# Altium schematic symbol library lora_carrier.SCHLIB: 34 symbols
Pins are listed as number, name and electrical type; pins without a type are passive.

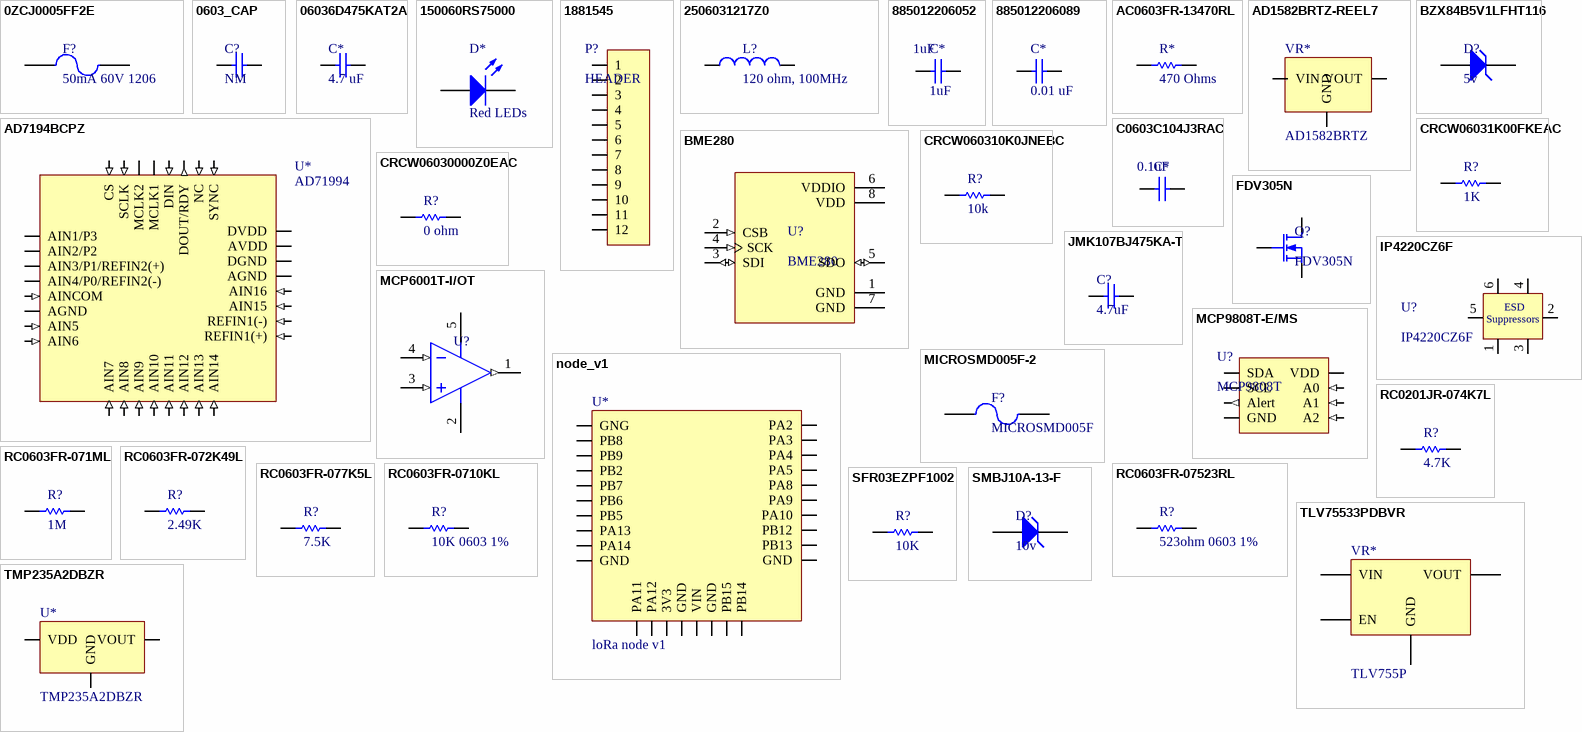
[diagram p0: symbols 0ZCJ0005FF2E to TMP235A2DBZR]

## 0ZCJ0005FF2E
designator F?, comment 50mA 60V 1206
Resettable Fuses - PPTC Fuse; Manufacturer: Bel Fuse; Manufacturer Part Number: 0ZCJ0005FF2E; Resistance: 50 Ohms; Type: PTC Resettable Fuses; Current Rating - Max: 10 A; Maximum Voltage: 60 VDC; Trip Current: 150 mA; Pd - Power Dissipation: 400 mW; Supplier 1: Mouser; RoHS: RoHS Compliant; Category: Resettable Fuses - PPTC; Stock 1: 83395; Pricing 1: 1=0.096, 10=0.085, 100=0.060, 250=0.059, 500=0.050, 1000=0.044, 3000=0.041, 6000=0.038, 9000=0.036 (EUR); Package / Case: 1206 (3216 metric); Packaging: Cut Tape; Series: ZCJ; Termination Style: SMD/SMT; Brand: Bel Fuse; Hold Current: 50 mA; Mounting Style: SMD/SMT; Maximum Operating Temperature: + 85 C; Minimum Operating Temperature: - 40 C; Product Type: Resettable Fuses - PPTC; Standard Pack Qty: 3000; Subcategory: PPTC Resettable Fuses; RoHS - Mouser: Y; Minimum Order Quantity: 1; Reeling: True; ComponentLink1URL: https://www.mouser.com/datasheet/2/643/0ZCJ_Nov2016-1132002.pdf; ComponentLink1Description: https://www.mouser.com/datasheet/2/643/0ZCJ_Nov2016-1132002.pdf; Supplier Part Number 1: 530-0ZCJ0005FF2E
footprint Chip2Pin-1206-FUSE-0ZCJ0005FF2E
pins: 1, 2

## 0603_CAP
designator C?, comment NM
footprint Chip2PinWURTcap
pins: 1, 2

## 06036D475KAT2A
designator C*, comment 4.7 uF
Multilayer Ceramic Capacitors MLCC - SMD/SMT FACTORY NOT ACCEPTING ORDERS; Manufacturer: AVX; Manufacturer Part Number: 06036D475KAT2A; Tolerance: 10 %; Voltage Rating DC: 6.3 VDC; Capacitance - nF: 4700 nF; Class: Class 2; Dielectric: X5R; Supplier 1: Mouser; RoHS: RoHS Compliant By Exemption; Category: Multilayer Ceramic Capacitors MLCC - SMD/SMT; Stock 1: 7820; Pricing 1: 1=0.306, 10=0.216, 100=0.122, 500=0.086, 1000=0.075, 2000=0.063, 4000=0.059, 8000=0.056, 24000=0.050 (EUR); Capacitance: 4.7 uF; Height: 0.9 mm; Length: 1.6 mm; Package / Case: 0603 (1608 metric); Packaging: Reel; Product: General Type MLCCs; Series: X5R; Termination Style: SMD/SMT; Type: Commercial Surface Mount Chip; Width: 0.81 mm; Brand: AVX; Case Code - in: 0603; Case Code - mm: 1608; Maximum Operating Temperature: + 85 C; Minimum Operating Temperature: - 55 C; Product Type: Ceramic Capacitors; Standard Pack Qty: 4000; Subcategory: Capacitors; RoHS - Mouser: E; Minimum Order Quantity: 8000; Reeling: True; ComponentLink1URL: https://www.mouser.com/datasheet/2/40/cx5r-776519.pdf; ComponentLink1Description: https://www.mouser.com/datasheet/2/40/cx5r-776519.pdf; Supplier Part Number 1: 581-06036D475K
footprint Chip2AVX_0603_cap
pins: 1, 2

## 150060RS75000
designator D*, comment Red LEDs
Typical INFRARED GaAs LED; Manufacturer: Wurth Electronics; Manufacturer Part Number: 150060RS75000; Lens Color/Style: Water Clear; Power Rating: 72 mW; Lens Shape: Rectangular; Luminous Intensity: 250 mcd; Peak Wavelength: 630 nm; Viewing Angle: 140 deg; CNHTS: 8541401000; If - Forward Current: 20 mA; MXHTS: 85414001; Vf - Forward Voltage: 2 V; Vr - Reverse Voltage: 5 V; Wavelength/Color Temperature: 625 nm; Published: 8-Jun-2000; LatestRevisionDate: 08-Jul-2005; LatestRevisionNote: Mech Layer 1 removed.; PackageReference: LED-0; Publisher: Altium Limited; PackageDescription: LED; 2 Leads; Supplier 1: Mouser; Supplier Part Number 1: 710-150060RS75000; RoHS: RoHS Compliant; Category: Standard LEDs - SMD; Stock 1: 74254; Pricing 1: 1=0.130, 10=0.126, 50=0.115, 100=0.099, 500=0.085, 4000=0.085 (EUR); Height: 0.7 mm; Illumination Color: Red; Length: 1.6 mm; Package / Case: 0603 (1608 metric); Packaging: Cut Tape; Product: Red LEDs; Series: WL-SMCW; Width: 0.8 mm; Brand: Wurth Electronics; Mounting Style: SMD/SMT; HTS Code: 8541402000; Lens Dimensions: 1.1 mm x 0.8 mm; Maximum Operating Temperature: + 85 C; Minimum Operating Temperature: - 40 C; Product Type: LED - Standard; Standard Pack Qty: 4000; Subcategory: LEDs; TARIC: 8541401000; RoHS - Mouser: Y; Minimum Order Quantity: 1; Reeling: True; ComponentLink1URL: http://www.mouser.com/datasheet/2/445/150060RS75000-368563.pdf; ComponentLink1Description: http://www.mouser.com/datasheet/2/445/150060RS75000-368563.pdf
footprint Wurth_LED_0603
pins: 1 A, 2 K

## 1881545
designator P?, comment HEADER
footprint 1881545
pins: 1, 2, 3, 4, 5, 6, 7, 8, 9, 10, 11, 12

## 2506031217Z0
designator L?, comment 120 ohm, 100MHz
Ferrite Beads MULTILAYER CHIP BEAD Z=120 OHM@100MHz 25%; Manufacturer: Fair-Rite; Manufacturer Part Number: 2506031217Z0; Impedance: 120 Ohms; Maximum DC Current: 450 mA; Maximum DC Resistance: 300 mOhms; Type: Multilayer Ferrite Chip Bead; Supplier 1: Mouser; RoHS: RoHS Compliant; Category: Ferrite Beads; Stock 1: 9619; Pricing 1: 1=0.032, 2500=0.027, 4000=0.025, 8000=0.024, 24000=0.022, 48000=0.021, 100000=0.018, 400000=0.016 (EUR); Capacitance: -; Height: 0.8 mm; Length: 1.6 mm; Operating Temperature Range: - 55 C to + 125 C; Package / Case: 0603 (1608 metric); Packaging: Cut Tape; Product: Ferrite Chip Beads; Termination Style: SMD/SMT; Tolerance: 25 %; Width: 0.8 mm; Brand: Fair-Rite; Maximum Operating Temperature: + 125 C; Minimum Operating Temperature: - 55 C; Product Type: Ferrite Beads; Standard Pack Qty: 4000; Subcategory: Ferrites; Termination: -; Test Frequency: 100 MHz; RoHS - Mouser: Y; Minimum Order Quantity: 1; Reeling: True; ComponentLink1URL: https://www.mouser.com/datasheet/2/150/2506031217Z0-471794.pdf; ComponentLink1Description: https://www.mouser.com/datasheet/2/150/2506031217Z0-471794.pdf; Supplier Part Number 1: 623-2506031217Z0
footprint Chip22506031217Z0-FeBread
pins: 1, 2

## 885012206052
designator C*, comment 1uF
Ceramic Capacitors; Manufacturer: Wurth Electronics; Manufacturer Part Number: 885012206052; Tolerance: 10 %; Voltage Rating DC: 16 VDC; Capacitance - nF: 1000 nF; CNHTS: 8532241000; Dielectric: X7R; TARIC: 8532240000; Published: 8-Jun-2000; LatestRevisionDate: 17-Jul-2002; LatestRevisionNote: Re-released for DXP Platform.; PackageReference: RAD-0.3; Publisher: Altium Limited; PackageDescription: Radial Cap, Thru-Hole; 2 Leads; 0.3 in Pin Spacing; Supplier 1: Mouser; Supplier Part Number 1: 710-885012206052; RoHS: RoHS Compliant; Category: Multilayer Ceramic Capacitors MLCC - SMD/SMT; Stock 1: 27157; Pricing 1: 1=0.110, 10=0.104, 50=0.085, 100=0.067, 250=0.059, 500=0.054, 4000=0.054 (EUR); Capacitance: 1 uF; Height: 0.8 mm; Length: 1.6 mm; Package / Case: 0603 (1608 metric); Packaging: Cut Tape; Product: General Type MLCCs; Series: WCAP-CSGP; Termination Style: SMD/SMT; Width: 0.8 mm; Brand: Wurth Electronics; Case Code - in: 0603; Case Code - mm: 1608; HTS Code: 8532240020; Maximum Operating Temperature: + 125 C; Minimum Operating Temperature: - 55 C; Product Type: Ceramic Capacitors; Standard Pack Qty: 4000; Subcategory: Capacitors; RoHS - Mouser: Y; Minimum Order Quantity: 1; Reeling: True; ComponentLink1URL: http://www.mouser.com/datasheet/2/445/885012206052-554330.pdf; ComponentLink1Description: http://www.mouser.com/datasheet/2/445/885012206052-554330.pdf; Value: 1uF
footprint Chip2PinWURTcap
pins: 1, 2

## 885012206089
designator C*, comment 0.01 uF
Multilayer Ceramic Capacitors MLCC - SMD/SMT WCAP-CSGP 0.01uF 0603 10% 50V MLCC; Manufacturer: Wurth Electronics; Manufacturer Part Number: 885012206089; Voltage Rating DC: 50 VDC; Capacitance - nF: 10 nF; Capacitance - pF: 10000 pF; Dielectric: X7R; Supplier 1: Mouser; RoHS: RoHS Compliant; Category: Multilayer Ceramic Capacitors MLCC - SMD/SMT; Stock 1: 174725; Pricing 1: 1=0.040, 10=0.032, 50=0.026, 100=0.021, 250=0.018, 500=0.017, 4000=0.017 (EUR); Capacitance: 0.01 uF; Height: 0.8 mm; Length: 1.6 mm; Package / Case: 0603 (1608 metric); Packaging: Cut Tape; Product: General Type MLCCs; Series: WCAP-CSGP; Termination Style: SMD/SMT; Tolerance: 10 %; Width: 0.8 mm; Brand: Wurth Electronics; Case Code - in: 0603; Case Code - mm: 1608; Maximum Operating Temperature: + 125 C; Minimum Operating Temperature: - 55 C; Product Type: Ceramic Capacitors; Standard Pack Qty: 4000; Subcategory: Capacitors; RoHS - Mouser: Y; Minimum Order Quantity: 1; Reeling: True; ComponentLink1URL: https://www.mouser.com/datasheet/2/445/885012206089-554597.pdf; ComponentLink1Description: https://www.mouser.com/datasheet/2/445/885012206089-554597.pdf; Supplier Part Number 1: 710-885012206089
footprint Chip2PinWURTcap
pins: 1, 2

## AC0603FR-13470RL
designator R*, comment 470 Ohms
Thick Film Resistors - SMD 470 ohm 1% 1/10W AEC-Q200; Manufacturer: Yageo; Manufacturer Part Number: AC0603FR-13470RL; Power Rating: 100 mW (1/10 W); Temperature Coefficient: 100 PPM / C; Product Status: New Product; Supplier 1: Mouser; RoHS: RoHS Compliant; Category: Thick Film Resistors - SMD; Stock 1: 35113; Pricing 1: 1=0.087, 10=0.019, 100=0.007, 1000=0.005, 2500=0.003, 20000=0.003 (EUR); Features: -; Height: 0.45 mm; Length: 1.6 mm; Package / Case: 0603 (1608 metric); Packaging: Cut Tape; Product: Thick Film Resistors General Purpose; Resistance: 470 Ohms; Series: AC; Technology: Thick Film; Termination Style: SMD/SMT; Tolerance: 1 %; Width: 0.8 mm; Brand: Yageo; Mounting Style: PCB Mount; Case Code - in: 0603; Case Code - mm: 1608; Maximum Operating Temperature: + 155 C; Minimum Operating Temperature: - 55 C; Product Type: Thick Film Resistors; Standard Pack Qty: 20000; Subcategory: Resistors; RoHS - Mouser: Y; Minimum Order Quantity: 1; Reeling: True; ComponentLink1URL: https://www.mouser.com/datasheet/2/447/PYu-AC_51_RoHS_L_6-1152827.pdf; ComponentLink1Description: https://www.mouser.com/datasheet/2/447/PYu-AC_51_RoHS_L_6-1152827.pdf; Supplier Part Number 1: 603-AC0603FR-13470RL
footprint ChipYAGEO_0603
pins: 1, 2

## AD1582BRTZ-REEL7
designator VR*, comment AD1582BRTZ
Voltage References 2.5V MICROPOWER REF IC; Manufacturer: Analog Devices; Manufacturer Part Number: AD1582BRTZ-REEL7; Accuracy: 3.5 mV/mA; Description/Function: 2.5 V micropower, precision series mode voltage reference; Input Voltage: 2.7 V to 12 V; Output Current: 5 mA; Temperature Coefficient: 50 PPM/C; Reference Type: Series Precision References; Topology: Series References; Operating Supply Current: 70 uA; Supplier 1: Mouser; RoHS: RoHS Compliant; Category: Voltage References; Stock 1: 7339; Pricing 1: 1=1.97, 10=1.79, 25=1.60, 100=1.46, 250=1.31, 500=1.14, 1000=0.952, 3000=0.919 (EUR); Height: 1.02 mm (Max); Length: 2.9 mm; Output Voltage: 2.5 V; Package / Case: SOT-23-3; Packaging: Cut Tape; Product: Voltage References; Series: AD1582; Width: 1.3 mm; Brand: Analog Devices; Mounting Style: SMD/SMT; Shunt Current - Max: 5 mA; Load Regulation: 3.5 mV/mA; Maximum Operating Temperature: + 125 C; Minimum Operating Temperature: - 40 C; Product Type: Voltage References; Standard Pack Qty: 3000; Subcategory: PMIC - Power Management ICs; RoHS - Mouser: Y; Minimum Order Quantity: 1; Reeling: True; ComponentLink1URL: https://www.mouser.com/datasheet/2/609/AD1582_1583_1584_1585-876960.pdf; ComponentLink1Description: https://www.mouser.com/datasheet/2/609/AD1582_1583_1584_1585-876960.pdf; Supplier Part Number 1: 584-AD1582BRTZ-R7
footprint SOT23-AD1582BRTZ
pins: 1 VOUT (power), 2 GND (power), 3 VIN (power)

## AD7194BCPZ
designator U*, comment AD71994
Analog to Digital Converters - ADC 8CH Ultra Low Noise 24Bit w/ PGA; Manufacturer: Analog Devices; Manufacturer Part Number: AD7194BCPZ; Input Type: Differential/Pseudo-Differential; Input Voltage: +/- 2.5 V; Number of Converters: 1 Converter; Sampling Rate: 4.8 kS/s; Architecture: Sigma-Delta; Interface Type: Serial, 3-Wire, SPI; Number of Channels: 8 Channel; Reference Type: External; Development Kit: EVAL-AD7194EBZ; Gain Error: +/- 0.005 %FSR; INL - Integral Nonlinearity: +/- 30 ppm of FSR; Number of ADC Inputs: 16 Input/8 Input; Operating Supply Voltage: 3.3 V, 5 V; Pd - Power Dissipation: 29 mW; Sample and Hold: No; Supplier 1: Mouser; RoHS: RoHS Compliant; Category: Analog to Digital Converters - ADC; Stock 1: 878; Pricing 1: 1=13.48, 10=12.23, 25=11.49, 50=11.06, 100=9.96, 250=9.20, 500=8.65, 1000=8.35 (EUR); Height: 0.73 mm; Length: 5 mm; Package / Case: LFCSP-32; Packaging: Tray; Product: Analog to Digital Converters; Resolution: 24 bit; Series: AD7194; Width: 5 mm; Brand: Analog Devices; Mounting Style: SMD/SMT; Maximum Operating Temperature: + 105 C; Minimum Operating Temperature: - 40 C; Product Type: ADCs - Analog to Digital Converters; Standard Pack Qty: 490; Subcategory: Data Converter ICs; RoHS - Mouser: Y; Minimum Order Quantity: 1; Reeling: False; ComponentLink1URL: https://www.mouser.com/datasheet/2/609/AD7194-1501808.pdf; ComponentLink1Description: https://www.mouser.com/datasheet/2/609/AD7194-1501808.pdf; Supplier Part Number 1: 584-AD7194BCPZ
footprint QFN127P600-AD7194BCPZ
pins: 1 AIN1/P3 (io), 2 AIN2/P2 (io), 3 AIN3/P1/REFIN2(+) (io), 4 AIN4/P0/REFIN2(-) (io), 5 AINCOM (in), 6 AGND (power), 7 AIN5 (in), 8 AIN6 (in), 9 AIN7 (in), 10 AIN8 (in), 11 AIN9 (in), 12 AIN10 (in), 13 AIN11 (in), 14 AIN12 (in), 15 AIN13 (in), 16 AIN14 (in), 17 REFIN1(+) (in), 18 REFIN1(-) (in), 19 AIN15 (in), 20 AIN16 (in), 21 AGND (power), 22 DGND (power), 23 AVDD (power), 24 DVDD (power), 25 SYNC (in), 26 NC (in), 27 DOUT/RDY (out), 28 DIN (in), 29 MCLK1 (io), 30 MCLK2 (io), 31 SCLK (in), 32 CS (in)

## BME280
designator U?
Board Mount Humidity Sensors; Manufacturer: Bosch Sensortec; Output Type: Digital; Interface Type: I2C, SPI; Operating Supply Current: 0.5 uA; Operating Supply Voltage: 1.8 V; RH Accuracy: 3 %; RH Range: 0 % to 100 %; Supply Voltage - Max: 3.6 V; Supply Voltage - Min: 1.7 V; Supplier 1: Mouser; Manufacturer Part Number: BME280; RoHS: RoHS Compliant; Category: Board Mount Humidity Sensors; Stock 1: 12614; Pricing 1: 1=5.78, 10=5.20, 25=4.63, 50=4.28, 100=3.70, 500=3.47, 1000=3.24, 5000=2.96, 10000=2.68 (EUR); Package / Case: LGA-8; Packaging: Cut Tape; Product: Board Mount; Brand: Bosch Sensortec; Mounting Style: SMD/SMT; Maximum Operating Temperature: + 85 C; Minimum Operating Temperature: - 40 C; Product Type: Humidity Sensors; Standard Pack Qty: 10000; Subcategory: Sensors; RoHS - Mouser: Y; Minimum Order Quantity: 1; Reeling: True; Supplier Part Number 1: 262-BME280
footprint PSON65P250X250X100-8N
pins: 1 GND (power), 2 CSB (in), 3 SDI (io), 4 SCK (in), 5 SDO (io), 6 VDDIO (power), 7 GND (power), 8 VDD (power)

## BZX84B5V1LFHT116
designator D?, comment 5v
Zener Diodes 5-5.2V 5mA SOT-23; SOT-23; Manufacturer: ROHM Semiconductor; Manufacturer Part Number: BZX84B5V1LFHT116; Configuration: Single; Ir - Reverse Current: 2 uA; Pd - Power Dissipation: 250 mW; Voltage Temperature Coefficient: 2.6 mV/C; Zz - Zener Impedance: 60 Ohms; Product Status: New Product; Supplier 1: Mouser; RoHS: RoHS Compliant; Category: Zener Diodes; Stock 1: 5913; Pricing 1: 1=0.192, 10=0.133, 100=0.055, 1000=0.038, 3000=0.030 (EUR); Height: 0.95 mm; Length: 2.9 mm; Package / Case: SOT-23-3; Packaging: Cut Tape; Width: 1.3 mm; Brand: ROHM Semiconductor; Mounting Style: SMD/SMT; Zener Current: 5 mA; Maximum Operating Temperature: + 150 C; Minimum Operating Temperature: - 65 C; Product Type: Zener Diodes; Standard Pack Qty: 3000; Subcategory: Diodes & Rectifiers; Vz - Zener Voltage: 5 V; RoHS - Mouser: Y; Minimum Order Quantity: 1; Reeling: True; ComponentLink1URL: https://www.mouser.com/datasheet/2/348/bzx84b5v1lfht116-e-1507876.pdf; ComponentLink1Description: https://www.mouser.com/datasheet/2/348/bzx84b5v1lfht116-e-1507876.pdf; Supplier Part Number 1: 755-BZX84B5V1LFHT116
footprint SOT23-BZX84B5V
pins: 1 A, 3 K

## C0603C104J3RAC
designator C*, comment 0.1uF
Multilayer Ceramic Capacitors MLCC - SMD/SMT 25V 0.1uF 0603 X7R 0.05; Manufacturer: KEMET; Manufacturer Part Number: C0603C104J3RAC; Tolerance: 5 %; Voltage Rating DC: 25 VDC; Capacitance - nF: 100 nF; Capacitance - pF: 100000 pF; Class: Class 2; CNHTS: 8532241000; TARIC: 8532240000; Published: 8-Jun-2000; LatestRevisionDate: 17-Jul-2002; LatestRevisionNote: Re-released for DXP Platform.; PackageReference: RAD-0.3; Publisher: Altium Limited; PackageDescription: Radial Cap, Thru-Hole; 2 Leads; 0.3 in Pin Spacing; Supplier 1: Mouser; Supplier Part Number 1: 80-C0603C104J3RAC; RoHS: RoHS Compliant; Category: Multilayer Ceramic Capacitors MLCC - SMD/SMT; Stock 1: 3422; Pricing 1: 1=0.367, 10=0.213, 100=0.129, 500=0.117, 1000=0.106, 4000=0.079, 8000=0.072, 24000=0.069, 48000=0.061 (EUR); Capacitance: 0.1 uF; Height: 0.8 mm; Length: 1.6 mm; Package / Case: 0603 (1608 metric); Packaging: Cut Tape; Product: General Type MLCCs; Series: SMD Comm X7R; Termination Style: SMD/SMT; Voltage Rating AC: -; Width: 0.8 mm; Brand: KEMET; Case Code - in: 0603; Case Code - mm: 1608; Dielectric: X7R; HTS Code: 8532240020; Maximum Operating Temperature: + 125 C; Minimum Operating Temperature: - 55 C; Product Type: Ceramic Capacitors; Standard Pack Qty: 4000; Subcategory: Capacitors; Termination: Standard; RoHS - Mouser: Y; Minimum Order Quantity: 1; Reeling: True; ComponentLink1URL: http://www.mouser.com/datasheet/2/212/KEM_C1002_X7R_SMD-1102033.pdf; ComponentLink1Description: http://www.mouser.com/datasheet/2/212/KEM_C1002_X7R_SMD-1102033.pdf; Value: 0.1uF
footprint Chip2PinKEMETcap
pins: 1, 2

## CRCW06031K00FKEAC
designator R?, comment 1K
Thick Film Resistors - SMD 1/10Watt 1Kohms 1% Commercial Use; Manufacturer: Vishay; Manufacturer Part Number: CRCW06031K00FKEAC; Power Rating: 100 mW (1/10 W); Temperature Coefficient: 100 PPM / C; Voltage Rating: 75 V; Product Status: New Product; Supplier 1: Mouser; RoHS: RoHS Compliant By Exemption; Category: Thick Film Resistors - SMD; Stock 1: 673640; Pricing 1: 1=0.087, 10=0.024, 100=0.010, 500=0.006, 1000=0.003, 5000=0.003 (EUR); Features: -; Height: 0.45 mm; Length: 1.55 mm; Package / Case: 0603 (1608 metric); Packaging: Cut Tape; Product: Thick Film Resistors SMD; Resistance: 1 kOhms; Series: CRCW-C e3; Technology: Thick Film; Termination Style: SMD/SMT; Tolerance: 1 %; Width: 0.85 mm; Brand: Vishay; Mounting Style: PCB Mount; Case Code - in: 0603; Case Code - mm: 1608; Maximum Operating Temperature: + 155 C; Minimum Operating Temperature: - 55 C; Product Type: Thick Film Resistors; Standard Pack Qty: 5000; Subcategory: Resistors; RoHS - Mouser: E; Minimum Order Quantity: 1; Reeling: True; ComponentLink1URL: https://www.mouser.com/datasheet/2/427/crcwce3-1223726.pdf; ComponentLink1Description: https://www.mouser.com/datasheet/2/427/crcwce3-1223726.pdf; Supplier Part Number 1: 71-CRCW06031K00FKEAC
footprint Chip2VISHAYres_0603
pins: 1, 2

## CRCW060310K0JNEBC
designator R?, comment 10k
Thick Film Resistors - SMD 1/10Watt 10Kohms 5% Commercial Use; Manufacturer: Vishay; Manufacturer Part Number: CRCW060310K0JNEBC; Power Rating: 100 mW (1/10 W); Temperature Coefficient: 200 PPM / C; Product Status: New Product; Supplier 1: Mouser; RoHS: RoHS Compliant By Exemption; Category: Thick Film Resistors - SMD; Stock 1: 47476; Pricing 1: 1=0.087, 10=0.019, 100=0.008, 1000=0.003, 10000=0.003 (EUR); Features: -; Height: 0.45 mm; Length: 1.55 mm; Package / Case: 0603 (1608 metric); Packaging: Cut Tape; Product: Thick Film Resistors General Purpose; Resistance: 10 kOhms; Series: CRCW-C e3; Technology: Thick Film; Termination Style: SMD/SMT; Tolerance: 5 %; Width: 0.85 mm; Brand: Vishay; Mounting Style: PCB Mount; Case Code - in: 0603; Case Code - mm: 1608; Maximum Operating Temperature: + 155 C; Minimum Operating Temperature: - 55 C; Product Type: Thick Film Resistors; Standard Pack Qty: 10000; Subcategory: Resistors; RoHS - Mouser: E; Minimum Order Quantity: 1; Reeling: True; ComponentLink1URL: https://www.mouser.com/datasheet/2/427/crcwce3-1223726.pdf; ComponentLink1Description: https://www.mouser.com/datasheet/2/427/crcwce3-1223726.pdf; Supplier Part Number 1: 71-CRCW060310K0JNEBC
footprint Chip2VISHAYres_0603
pins: 1, 2

## CRCW06030000Z0EAC
designator R?, comment 0 ohm
Thick Film Resistors - SMD 1/10Watt 0ohms Commercial Use; Manufacturer: Vishay; Manufacturer Part Number: CRCW06030000Z0EAC; Power Rating: 100 mW (1/10 W); Voltage Rating: 75 V; Product Status: New Product; Supplier 1: Mouser; RoHS: RoHS Compliant By Exemption; Category: Thick Film Resistors - SMD; Stock 1: 995828; Pricing 1: 1=0.087, 10=0.024, 100=0.010, 1000=0.004, 2000=0.003, 5000=0.003 (EUR); Features: -; Height: 0.45 mm; Length: 1.55 mm; Package / Case: 0603 (1608 metric); Packaging: Cut Tape; Product: Thick Film Resistors SMD; Resistance: 0 Ohms; Series: CRCW-C e3; Technology: Thick Film; Temperature Coefficient: -; Termination Style: SMD/SMT; Width: 0.85 mm; Brand: Vishay; Mounting Style: PCB Mount; Case Code - in: 0603; Case Code - mm: 1608; Maximum Operating Temperature: + 155 C; Minimum Operating Temperature: - 55 C; Product Type: Thick Film Resistors; Standard Pack Qty: 5000; Subcategory: Resistors; RoHS - Mouser: E; Minimum Order Quantity: 1; Reeling: True; ComponentLink1URL: https://www.mouser.com/datasheet/2/427/crcwce3-1223726.pdf; ComponentLink1Description: https://www.mouser.com/datasheet/2/427/crcwce3-1223726.pdf; Supplier Part Number 1: 71-CRCW06030000Z0EAC
footprint Chip2VISHAYres_0603
pins: 1, 2

## FDV305N
designator Q?
MOSFET 20V N-Channel PowerTrench; Manufacturer: ON Semiconductor / Fairchild; Configuration: Single; Transistor Type: 1 N-Channel; Forward Transconductance - Min: 3 S; Number of Channels: 1 Channel; Channel Mode: Enhancement; Fall Time: 7 ns; Id - Continuous Drain Current: 900 mA; Pd - Power Dissipation: 350 mW; Rds On - Drain-Source Resistance: 164 mOhms; Typical Turn-Off Delay Time: 8 ns; Typical Turn-On Delay Time: 4.5 ns; Vgs - Gate-Source Voltage: 12 V; Supplier 1: Mouser; Manufacturer Part Number: FDV305N; RoHS: RoHS Compliant; Category: MOSFET; Stock 1: 26056; Pricing 1: 1=0.410, 10=0.293, 100=0.134, 1000=0.103, 3000=0.088, 9000=0.080, 24000=0.075, 45000=0.068 (EUR); Height: 1.2 mm; Length: 2.9 mm; Package / Case: SOT-23-3; Packaging: Cut Tape; Product: MOSFET Small Signal; Series: FDV305N; Technology: Si; Type: MOSFET; Width: 1.3 mm; Brand: ON Semiconductor / Fairchild; Mounting Style: SMD/SMT; Transistor Polarity: N-Channel; Maximum Operating Temperature: + 150 C; Minimum Operating Temperature: - 55 C; Product Type: MOSFET; Rise Time: 7 ns; Standard Pack Qty: 3000; Subcategory: MOSFETs; Tradename: PowerTrench; Vds - Drain-Source Breakdown Voltage: 20 V; RoHS - Mouser: Y; Minimum Order Quantity: 1; Reeling: True; ComponentLink1URL: https://www.mouser.com/datasheet/2/308/FDV305N-1300591.pdf; ComponentLink1Description: https://www.mouser.com/datasheet/2/308/FDV305N-1300591.pdf; Supplier Part Number 1: 512-FDV305N
footprint SOT23-3PIN-ON-STANT
pins: 1 G, 2 S, 3 D

## IP4220CZ6F
designator U?
ESD Suppressors / TVS Diodes IP4220CZ6/SC-74/REEL 13" Q1/T1; Manufacturer: Nexperia; Supplier 1: Mouser; Manufacturer Part Number: IP4220CZ6F; RoHS: RoHS Compliant; Category: ESD Suppressors / TVS Diodes; Stock 1: 23187; Pricing 1: 1=0.349, 10=0.272, 100=0.147, 1000=0.110, 2500=0.095, 10000=0.089, 20000=0.082, 50000=0.079 (EUR); Packaging: Cut Tape; Brand: Nexperia; Product Type: TVS Diodes; Standard Pack Qty: 10000; Subcategory: TVS Diodes / ESD Suppression Diodes; RoHS - Mouser: Y; Minimum Order Quantity: 1; Reeling: True; Supplier Part Number 1: 771-IP4220CZ6F
footprint TSOP6-IP4220CZ6F (TSOP, 6-Leads, Body 2.90x1.50mm, Pitch 0.95mm, IPC Medium Density)
pins: 1 ESD1 (io), 2 GND (power), 3 ESD2 (io), 4 ESD3 (io), 5 VCC (power), 6 ESD4 (io)
text: ESD; Suppressors

## JMK107BJ475KA-T
designator C?, comment 4.7uF
Multilayer Ceramic Capacitors MLCC - SMD/SMT 4.7uF 6.3V X5R 0603+/-10% Gen Purp; Manufacturer: Taiyo Yuden; Manufacturer Part Number: JMK107BJ475KA-T; Tolerance: 10 %; Type: General Purpose; Voltage Rating DC: 6.3 VDC; Capacitance - nF: 4700 nF; Class: Class 2; Supplier 1: Mouser; RoHS: RoHS Compliant; Category: Multilayer Ceramic Capacitors MLCC - SMD/SMT; Stock 1: 0; Pricing 1: 1=0.114, 10=0.042, 100=0.029, 500=0.024, 1000=0.019, 4000=0.019, 8000=0.014, 12000=0.012 (EUR); Capacitance: 4.7 uF; Height: 0.8 mm; Length: 1.6 mm; Package / Case: 0603 (1608 metric); Packaging: Cut Tape; Product: General Type MLCCs; Series: M; Termination Style: SMD/SMT; Width: 0.8 mm; Brand: Taiyo Yuden; Case Code - in: 0603; Case Code - mm: 1608; Dielectric: X5R; Maximum Operating Temperature: + 85 C; Minimum Operating Temperature: - 55 C; Product Type: Ceramic Capacitors; Standard Pack Qty: 4000; Subcategory: Capacitors; Termination: Standard; RoHS - Mouser: Y; Minimum Order Quantity: 1; Reeling: True; ComponentLink1URL: https://www.mouser.com/datasheet/2/396/mlcc02_e-1307760.pdf; ComponentLink1Description: https://www.mouser.com/datasheet/2/396/mlcc02_e-1307760.pdf; Supplier Part Number 1: 963-JMK107BJ475KA-T
footprint Chip2TAIYOcap
pins: 1, 2

## MCP6001T-I/OT
designator U?  (value not drawn)
Operational Amplifiers - Op Amps Single 1.8V 1MHz; Manufacturer: Microchip Technology; Amplifier Type: Low Power Amplifier; Number of Channels: 1 Channel; Shutdown: No Shutdown; CMRR - Common Mode Rejection Ratio: 60 dB; en - Input Voltage Noise Density: 28 nV/sqrt Hz; Ib - Input Bias Current: 1 pA; In - Input Noise Current Density: 0.0006 pA/sqrt Hz; Operating Supply Current: 100 uA; Operating Supply Voltage: 1.8 V to 5.5 V; Output Current per Channel: 23 mA; PSRR - Power Supply Rejection Ratio: 86 dB; SR - Slew Rate: 0.6 V/us; Supply Voltage - Max: 5.5 V; Voltage Gain dB: 112 dB; Vos - Input Offset Voltage: 4.5 mV; Supplier 1: Mouser; Manufacturer Part Number: MCP6001T-I/OT; RoHS: RoHS Compliant; Category: Operational Amplifiers - Op Amps; Stock 1: 73026; Pricing 1: 1=0.210, 25=0.180, 100=0.162, 3000=0.162 (EUR); Height: 1.3 mm (Max); Length: 3.1 mm (Max); Package / Case: SOT-23-5; Packaging: Cut Tape; Product: Operational Amplifiers; Supply Type: Single; Technology: CMOS; Width: 1.8 mm (Max); Brand: Microchip Technology; Mounting Style: SMD/SMT; GBP - Gain Bandwidth Product: 1 MHz; Maximum Operating Temperature: + 85 C; Minimum Operating Temperature: - 40 C; Product Type: Op Amps - Operational Amplifiers; Standard Pack Qty: 3000; Subcategory: Amplifier ICs; Supply Voltage - Min: 1.8 V; RoHS - Mouser: Y; Minimum Order Quantity: 1; Reeling: True; ComponentLink1URL: https://www.mouser.com/datasheet/2/268/21733e-41017.pdf; ComponentLink1Description: https://www.mouser.com/datasheet/2/268/21733e-41017.pdf; Supplier Part Number 1: 579-MCP6001T-I/OT
footprint SOT23-MCP600
pins: 1 OUT (out), 2 V- (power), 3 IN+ (in), 4 IN- (in), 5 V+ (power)

## MCP9808T-E/MS
designator U?, comment MCP9808T
Board Mount Temperature Sensors Silicon temp sensor with I2C interface; Manufacturer: Microchip Technology; Manufacturer Part Number: MCP9808T-E/MS; Accuracy: +/- 1 C; Output Type: Digital; Resolution: 16 bit; Interface Type: 2-Wire, I2C, SMBus; Operating Supply Current: 200 uA; Supply Voltage - Max: 5.5 V; Supply Voltage - Min: 2.7 V; Supplier 1: Mouser; RoHS: RoHS Compliant; Category: Board Mount Temperature Sensors; Stock 1: 2211; Pricing 1: 1=1.01, 10=0.996, 25=0.845, 100=0.764, 2500=0.764 (EUR); Package / Case: MSOP-8; Packaging: Cut Tape; Product: Sensor; Series: MCP9808T; Brand: Microchip Technology; Mounting Style: SMD/SMT; Shutdown: Shutdown; Maximum Operating Temperature: + 125 C; Minimum Operating Temperature: - 40 C; Product Type: Temperature Sensors; Standard Pack Qty: 2500; Subcategory: Sensors; RoHS - Mouser: Y; Minimum Order Quantity: 1; Reeling: True; ComponentLink1URL: https://www.mouser.com/datasheet/2/268/25095A-15487.pdf; ComponentLink1Description: https://www.mouser.com/datasheet/2/268/25095A-15487.pdf; Supplier Part Number 1: 579-MCP9808T-E/MS
footprint SOP127P600-8N-MCP9808T
pins: 1 SDA (io), 2 SCL (io), 3 Alert (out), 4 GND (power), 5 A2 (in), 6 A1 (in), 7 A0 (in), 8 VDD (power)

## MICROSMD005F-2
designator F?, comment MICROSMD005F
Resettable Fuses - PPTC .05A 30V 10A IMAX; Manufacturer: Littelfuse; Manufacturer Part Number: MICROSMD005F-2; Resistance: 50 Ohms; Type: PolySwitch Resettable Fuses; Hold Current: 50 mA; Trip Current: 150 mA; Pd - Power Dissipation: 1 W; Supplier 1: Mouser; RoHS: RoHS Compliant; Category: Resettable Fuses - PPTC; Stock 1: 33972; Pricing 1: 1=0.384, 10=0.301, 100=0.251, 250=0.227, 500=0.194, 1000=0.170, 4000=0.170 (EUR); Height: 0.85 mm; Length: 3.43 mm; Package / Case: 1210 (3225 metric); Packaging: Cut Tape; Series: microSMD; Termination Style: SMD/SMT; Width: 2.8 mm; Brand: Littelfuse; Current Rating - Max: 10 A; Maximum Voltage: 30 V; Mounting Style: SMD/SMT; Maximum Operating Temperature: + 85 C; Minimum Operating Temperature: - 40 C; Product Type: Resettable Fuses - PPTC; Standard Pack Qty: 4000; Subcategory: PPTC Resettable Fuses; Tradename: PolySwitch; RoHS - Mouser: Y; Minimum Order Quantity: 1; Reeling: True; ComponentLink1URL: https://www.mouser.com/datasheet/2/240/Littelfuse_PTC_MICROSMD_Catalog_Datasheet.pdf-1021745.pdf; ComponentLink1Description: https://www.mouser.com/datasheet/2/240/Littelfuse_PTC_MICROSMD_Catalog_Datasheet.pdf-1021745.pdf; Supplier Part Number 1: 650-MICROSMD005F-2
footprint Chip2PinMICROSMD005F
pins: 1, 2

## node_v1
designator U*, comment loRa node v1
footprint LoRa_node
pins: 1 GNG (power), 2 PB8 (io), 3 PB9 (io), 4 PB2 (io), 5 PB7 (io), 6 PB6 (io), 7 PB5 (io), 8 PA13 (io), 9 PA14 (io), 10 GND (power), 11 PA11 (io), 12 PA12 (io), 13 3V3 (power), 14 GND (power), 15 VIN (power), 16 GND (power), 17 PB15 (io), 18 PB14 (io), 19 GND (power), 20 PB13 (io), 21 PB12 (io), 22 PA10 (io), 23 PA9 (io), 24 PA8 (io), 25 PA5 (io), 26 PA4 (io), 27 PA3 (io), 28 PA2 (io)

## RC0201JR-074K7L
designator R?, comment 4.7K
Thick Film Resistors - SMD 4.7K OHM 5%; Manufacturer: Yageo; Manufacturer Part Number: RC0201JR-074K7L; Power Rating: 50 mW (1/20 W); Resistance: 4.7 kOhms; Temperature Coefficient: 200 PPM / C; Voltage Rating: 25 V; Supplier 1: Mouser; RoHS: RoHS Compliant; Category: Thick Film Resistors - SMD; Stock 1: 134718; Pricing 1: 1=0.087, 10=0.019, 100=0.007, 1000=0.005, 2500=0.003, 10000=0.003 (EUR); Application: High Reliability; Features: -; Height: 0.23 mm; Length: 0.6 mm; Package / Case: 0201 (0603 metric); Packaging: Cut Tape; Product: Thick Film Resistors SMD; Series: RC; Technology: Thick Film; Termination Style: SMD/SMT; Tolerance: 5 %; Type: General Purpose; Width: 0.3 mm; Brand: Yageo; Mounting Style: PCB Mount; Case Code - in: 0201; Case Code - mm: 0603; Maximum Operating Temperature: + 125 C; Minimum Operating Temperature: - 55 C; Product Type: Thick Film Resistors; Standard Pack Qty: 10000; Subcategory: Resistors; RoHS - Mouser: Y; Minimum Order Quantity: 1; Reeling: True; ComponentLink1URL: https://www.mouser.com/datasheet/2/447/PYu-RC_Group_51_RoHS_L_9-1314892.pdf; ComponentLink1Description: https://www.mouser.com/datasheet/2/447/PYu-RC_Group_51_RoHS_L_9-1314892.pdf; Supplier Part Number 1: 603-RC0201JR-074K7L
footprint ChipYAGEO_0603
pins: 1, 2

## RC0603FR-071ML
designator R?, comment 1M
Thick Film Resistors - SMD 1M OHM 1%; Manufacturer: Yageo; Manufacturer Part Number: RC0603FR-071ML; Power Rating: 100 mW, 200 mW; Resistance: 1 MOhms; Temperature Coefficient: 100 PPM / C; Voltage Rating: 75 V; Supplier 1: Mouser; RoHS: RoHS Compliant; Category: Thick Film Resistors - SMD; Stock 1: 5552342; Pricing 1: 1=0.087, 10=0.016, 100=0.005, 1000=0.004, 5000=0.003, 50000=0.002 (EUR); Application: High Reliability; Features: -; Height: 0.45 mm; Length: 1.6 mm; Package / Case: 0603 (1608 metric); Packaging: Cut Tape; Product: Thick Film Resistors SMD; Series: RC; Technology: Thick Film; Termination Style: SMD/SMT; Tolerance: 1 %; Type: General Purpose; Width: 0.8 mm; Brand: Yageo; Mounting Style: PCB Mount; Case Code - in: 0603; Case Code - mm: 1608; Maximum Operating Temperature: + 155 C; Minimum Operating Temperature: - 55 C; Product Type: Thick Film Resistors; Standard Pack Qty: 5000; Subcategory: Resistors; RoHS - Mouser: Y; Minimum Order Quantity: 1; Reeling: True; ComponentLink1URL: https://www.mouser.com/datasheet/2/447/PYu-RC_Group_51_RoHS_L_9-1314892.pdf; ComponentLink1Description: https://www.mouser.com/datasheet/2/447/PYu-RC_Group_51_RoHS_L_9-1314892.pdf; Supplier Part Number 1: 603-RC0603FR-071ML
footprint ChipYAGEO_0603
pins: 1, 2

## RC0603FR-072K49L
designator R?, comment 2.49K
Thick Film Resistors - SMD 2.49K OHM 1%; Manufacturer: Yageo; Manufacturer Part Number: RC0603FR-072K49L; Power Rating: 100 mW, 200 mW; Resistance: 2.49 kOhms; Temperature Coefficient: 100 PPM / C; Voltage Rating: 75 V; Supplier 1: Mouser; RoHS: RoHS Compliant By Exemption; Category: Thick Film Resistors - SMD; Stock 1: 331833; Pricing 1: 1=0.087, 10=0.016, 100=0.005, 1000=0.004, 5000=0.003, 50000=0.002 (EUR); Application: High Reliability; Features: -; Height: 0.45 mm; Length: 1.6 mm; Package / Case: 0603 (1608 metric); Packaging: Cut Tape; Product: Thick Film Resistors SMD; Series: RC; Technology: Thick Film; Termination Style: SMD/SMT; Tolerance: 1 %; Type: General Purpose; Width: 0.8 mm; Brand: Yageo; Mounting Style: PCB Mount; Case Code - in: 0603; Case Code - mm: 1608; Maximum Operating Temperature: + 155 C; Minimum Operating Temperature: - 55 C; Product Type: Thick Film Resistors; Standard Pack Qty: 5000; Subcategory: Resistors; RoHS - Mouser: E; Minimum Order Quantity: 1; Reeling: True; ComponentLink1URL: https://www.mouser.com/datasheet/2/447/PYu-RC_Group_51_RoHS_L_9-1314892.pdf; ComponentLink1Description: https://www.mouser.com/datasheet/2/447/PYu-RC_Group_51_RoHS_L_9-1314892.pdf; Supplier Part Number 1: 603-RC0603FR-072K49L
footprint ChipYAGEO_0603
pins: 1, 2

## RC0603FR-077K5L
designator R?, comment 7.5K
Thick Film Resistors - SMD 7.5K OHM 1%; Manufacturer: Yageo; Manufacturer Part Number: RC0603FR-077K5L; Power Rating: 100 mW, 200 mW; Resistance: 7.5 kOhms; Temperature Coefficient: 100 PPM / C; Voltage Rating: 75 V; Supplier 1: Mouser; RoHS: RoHS Compliant By Exemption; Category: Thick Film Resistors - SMD; Stock 1: 148379; Pricing 1: 1=0.087, 10=0.016, 100=0.005, 1000=0.004, 5000=0.003, 50000=0.002 (EUR); Application: High Reliability; Features: -; Height: 0.45 mm; Length: 1.6 mm; Package / Case: 0603 (1608 metric); Packaging: Cut Tape; Product: Thick Film Resistors SMD; Series: RC; Technology: Thick Film; Termination Style: SMD/SMT; Tolerance: 1 %; Type: General Purpose; Width: 0.8 mm; Brand: Yageo; Mounting Style: PCB Mount; Case Code - in: 0603; Case Code - mm: 1608; Maximum Operating Temperature: + 155 C; Minimum Operating Temperature: - 55 C; Product Type: Thick Film Resistors; Standard Pack Qty: 5000; Subcategory: Resistors; RoHS - Mouser: E; Minimum Order Quantity: 1; Reeling: True; ComponentLink1URL: https://www.mouser.com/datasheet/2/447/PYu-RC_Group_51_RoHS_L_9-1314892.pdf; ComponentLink1Description: https://www.mouser.com/datasheet/2/447/PYu-RC_Group_51_RoHS_L_9-1314892.pdf; Supplier Part Number 1: 603-RC0603FR-077K5L
footprint ChipYAGEO_0603
pins: 1, 2

## RC0603FR-0710KL
designator R?, comment 10K 0603 1%
Thick Film Resistors - SMD 10K OHM 1%; Manufacturer: Yageo; Manufacturer Part Number: RC0603FR-0710KL; Power Rating: 100 mW, 200 mW; Resistance: 10 kOhms; Temperature Coefficient: 100 PPM / C; Voltage Rating: 75 V; Supplier 1: Mouser; RoHS: RoHS Compliant; Category: Thick Film Resistors - SMD; Stock 1: 22043469; Pricing 1: 1=0.087, 10=0.016, 100=0.005, 1000=0.004, 5000=0.003, 50000=0.002 (EUR); Application: High Reliability; Features: -; Height: 0.45 mm; Length: 1.6 mm; Package / Case: 0603 (1608 metric); Packaging: Cut Tape; Product: Thick Film Resistors SMD; Series: RC; Technology: Thick Film; Termination Style: SMD/SMT; Tolerance: 1 %; Type: General Purpose; Width: 0.8 mm; Brand: Yageo; Mounting Style: PCB Mount; Case Code - in: 0603; Case Code - mm: 1608; Maximum Operating Temperature: + 155 C; Minimum Operating Temperature: - 55 C; Product Type: Thick Film Resistors; Standard Pack Qty: 5000; Subcategory: Resistors; RoHS - Mouser: Y; Minimum Order Quantity: 1; Reeling: True; ComponentLink1URL: https://www.mouser.com/datasheet/2/447/PYu-RC_Group_51_RoHS_L_9-1314892.pdf; ComponentLink1Description: https://www.mouser.com/datasheet/2/447/PYu-RC_Group_51_RoHS_L_9-1314892.pdf; Supplier Part Number 1: 603-RC0603FR-0710KL
footprint ChipYAGEO_0603
pins: 1, 2

## RC0603FR-07523RL
designator R?, comment 523ohm 0603 1%
Thick Film Resistors - SMD 523 OHM 1%; Manufacturer: Yageo; Manufacturer Part Number: RC0603FR-07523RL; Power Rating: 100 mW, 200 mW; Resistance: 523 Ohms; Temperature Coefficient: 100 PPM / C; Voltage Rating: 75 V; Supplier 1: Mouser; RoHS: RoHS Compliant; Category: Thick Film Resistors - SMD; Stock 1: 47821; Pricing 1: 1=0.087, 10=0.016, 100=0.005, 1000=0.004, 5000=0.003, 50000=0.002 (EUR); Application: High Reliability; Features: -; Height: 0.45 mm; Length: 1.6 mm; Package / Case: 0603 (1608 metric); Packaging: Cut Tape; Product: Thick Film Resistors SMD; Series: RC; Technology: Thick Film; Termination Style: SMD/SMT; Tolerance: 1 %; Type: General Purpose; Width: 0.8 mm; Brand: Yageo; Mounting Style: PCB Mount; Case Code - in: 0603; Case Code - mm: 1608; Maximum Operating Temperature: + 155 C; Minimum Operating Temperature: - 55 C; Product Type: Thick Film Resistors; Standard Pack Qty: 5000; Subcategory: Resistors; RoHS - Mouser: Y; Minimum Order Quantity: 1; Reeling: True; ComponentLink1URL: https://www.mouser.com/datasheet/2/447/PYu-RC_Group_51_RoHS_L_9-1314892.pdf; ComponentLink1Description: https://www.mouser.com/datasheet/2/447/PYu-RC_Group_51_RoHS_L_9-1314892.pdf; Supplier Part Number 1: 603-RC0603FR-07523RL
footprint ChipYAGEO_0603
pins: 1, 2

## SFR03EZPF1002
designator R?, comment 10K
Thick Film Resistors - SMD 0603 10Kohms 1% Anti-Sulfur AEC-Q200; Manufacturer: ROHM Semiconductor; Manufacturer Part Number: SFR03EZPF1002; Power Rating: 100 mW (1/10 W); Temperature Coefficient: 100 PPM / C; Voltage Rating: 50 V; Product Status: New Product; Supplier 1: Mouser; RoHS: RoHS Compliant; Category: Thick Film Resistors - SMD; Stock 1: 16683; Pricing 1: 1=0.087, 10=0.069, 100=0.024, 1000=0.017, 5000=0.013, 10000=0.011, 25000=0.010, 50000=0.009, 100000=0.008 (EUR); Application: Automotive Grade; Features: Anti-Sulfur Resistors; Height: 0.45 mm; Length: 1.6 mm; Package / Case: 0603 (1608 metric); Packaging: Cut Tape; Product: Thick Film Resistors SMD; Resistance: 10 kOhms; Series: SFR; Technology: Thick Film; Termination Style: SMD/SMT; Tolerance: 1 %; Width: 0.8 mm; Brand: ROHM Semiconductor; Mounting Style: PCB Mount; Case Code - in: 0603; Case Code - mm: 1608; Maximum Operating Temperature: + 155 C; Minimum Operating Temperature: - 55 C; Product Type: Thick Film Resistors; Standard Pack Qty: 5000; Subcategory: Resistors; RoHS - Mouser: Y; Minimum Order Quantity: 1; Reeling: True; ComponentLink1URL: https://www.mouser.com/datasheet/2/348/sfr-e-1507454.pdf; ComponentLink1Description: https://www.mouser.com/datasheet/2/348/sfr-e-1507454.pdf; Supplier Part Number 1: 755-SFR03EZPF1002
footprint Chip2Pin-ROHM-res
pins: 1, 2

## SMBJ10A-13-F
designator D?, comment 10v
ESD Suppressors / TVS Diodes 600W 10.0V; Manufacturer: Diodes Incorporated; Manufacturer Part Number: SMBJ10A-13-F; Breakdown Voltage: 12.8 V; Clamping Voltage: 17 V; Polarity: Unidirectional; Supplier 1: Mouser; RoHS: RoHS Compliant; Category: ESD Suppressors / TVS Diodes; Stock 1: 4423; Pricing 1: 1=0.358, 10=0.248, 100=0.114, 1000=0.087, 3000=0.075, 9000=0.068, 24000=0.064 (EUR); Package / Case: DO-214AA-2 (SMB); Packaging: Cut Tape; Series: SMBJ; Termination Style: SMD/SMT; Brand: Diodes Incorporated; Maximum Operating Temperature: + 150 C; Minimum Operating Temperature: - 55 C; Pd - Power Dissipation: 600 W; Product Type: TVS Diodes; Standard Pack Qty: 3000; Subcategory: TVS Diodes / ESD Suppression Diodes; Vesd - Voltage ESD Air Gap: -; Vesd - Voltage ESD Contact: -; Working Voltage: 10 V; RoHS - Mouser: Y; Minimum Order Quantity: 1; Reeling: True; ComponentLink1URL: https://www.mouser.com/datasheet/2/115/ds19002-1078141.pdf; ComponentLink1Description: https://www.mouser.com/datasheet/2/115/ds19002-1078141.pdf; Supplier Part Number 1: 621-SMBJ10A-13-F
footprint Chip2Pin-SMB10JA
pins: 1 A, 2 K

## TLV75533PDBVR
designator VR*, comment TLV755P
LDO Voltage Regulators 500-mA, Low IQ, Small Size, Low Dropout Regulator 5-SOT-23 -40 to 125; Manufacturer: Texas Instruments; Manufacturer Part Number: TLV75533PDBVR; Input Voltage MAX: 5.5 V; Number of Outputs: 1 Output; Output Current: 500 mA; Output Type: Fixed; Output Voltage: 3.3 V; Quiescent Current: 25 uA; Dropout Voltage - Max: 215 mV; PSRR / Ripple Rejection - Typ: 46 dB; Voltage Regulation Accuracy: 1.5 %; CNHTS: 8542319000; Dropout Voltage: 220 mV; Input Voltage MIN: 1.45 V; Line Regulation: 2 mV; Load Regulation: 0.06 V/A; Polarity: Positive; Product Status: New Product; Supplier 1: Mouser; RoHS: RoHS Compliant; Category: LDO Voltage Regulators; Stock 1: 48621; Pricing 1: 1=0.541, 10=0.454, 100=0.292, 1000=0.234, 2000=0.212, 3000=0.197, 9000=0.190 (EUR); Operating Temperature Range: - 40 C to + 125 C; Package / Case: SOT-23-5; Packaging: Cut Tape; Product: LDO Voltage Regulators; Series: TLV755P; Type: Low Quiescent Current, Ultra Small; Brand: Texas Instruments; Mounting Style: SMD/SMT; Output Voltage Range: -; HTS Code: 8542390001; Maximum Operating Temperature: + 125 C; Minimum Operating Temperature: - 40 C; Product Type: LDO Voltage Regulators; Standard Pack Qty: 3000; Subcategory: PMIC - Power Management ICs; RoHS - Mouser: Y; Minimum Order Quantity: 1; Reeling: True; Supplier Part Number 1: 595-TLV75533PDBVR
footprint SOT23-TLV755P
pins: 1 VIN, 2 GND, 3 EN, 5 VOUT

## TMP235A2DBZR
designator U*
Board Mount Temperature Sensors Precision Analog Output Temperature Sensor 3-SOT-23 -40 to 150; Manufacturer: Texas Instruments; Accuracy: +/- 0.5 C; Configuration: Local; Output Current: 500 uA; Shutdown: No Shutdown; Operating Supply Current: 9 uA; Supply Voltage - Max: 5.5 V; Supply Voltage - Min: 2.3 V; Product Status: New Product; Supplier 1: Mouser; Manufacturer Part Number: TMP235A2DBZR; RoHS: RoHS Compliant; Category: Board Mount Temperature Sensors; Stock 1: 13146; Pricing 1: 1=0.786, 10=0.655, 25=0.574, 100=0.406, 250=0.371, 500=0.353, 1000=0.309, 3000=0.296, 6000=0.274 (EUR); Output Type: Analog; Package / Case: SOT-23-3; Packaging: Cut Tape; Product: Analog Temperature Sensors; Series: TMP235; Brand: Texas Instruments; Mounting Style: SMD/SMT; Maximum Operating Temperature: + 150 C; Minimum Operating Temperature: - 40 C; Product Type: Temperature Sensors; Standard Pack Qty: 3000; Subcategory: Sensors; RoHS - Mouser: Y; Minimum Order Quantity: 1; Reeling: True; Supplier Part Number 1: 595-TMP235A2DBZR
pins: 1 VDD (power), 2 VOUT (power), 3 GND (power)